# Altium integrated library 74LVC163PW_TSSOP16.IntLib: 1 symbol
Pins are listed as number, name and electrical type; pins without a type are passive.

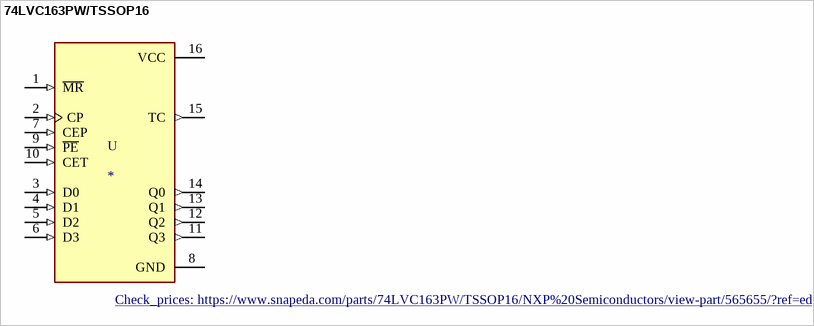
[diagram p0: symbol 74LVC163PW/TSSOP16]

## 74LVC163PW/TSSOP16
designator U
Ic, Logic, 4 Bit Binary Counter, Tssop16; MP: 74LVC163PW/TSSOP16; MF: NXP Semiconductors; Price: None; Package: TSSOP-16 NXP Semiconductors; Value: *; Availability: Unavailable; SnapEDA_Link: https://www.snapeda.com/parts/74LVC163PW/TSSOP16/NXP%20Semiconductors/view-part/565655/?ref=snap; Check_prices: https://www.snapeda.com/parts/74LVC163PW/TSSOP16/NXP%20Semiconductors/view-part/565655/?ref=eda
footprint SOP65P640X110-16N
pins: 1 ~{MR} (in), 2 CP (in), 3 D0 (in), 4 D1 (in), 5 D2 (in), 6 D3 (in), 7 CEP (in), 8 GND (power), 9 ~{PE} (in), 10 CET (in), 11 Q3 (out), 12 Q2 (out), 13 Q1 (out), 14 Q0 (out), 15 TC (out), 16 VCC (power)